# EAGLE library part ATTINY4313 (library smd_other)
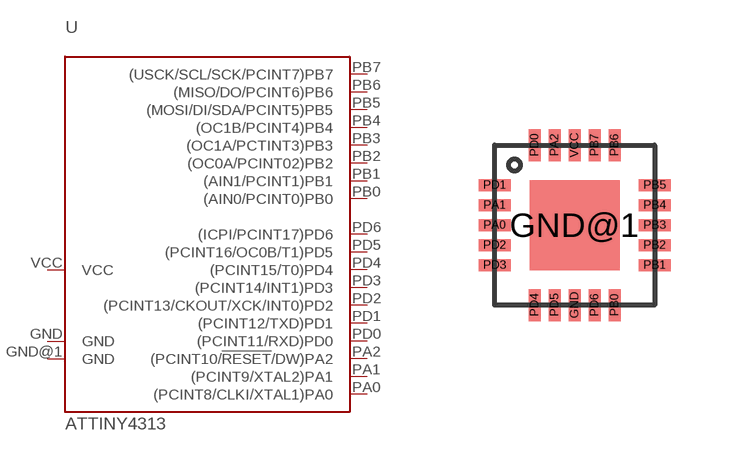
[diagram p3: symbol with the pads of ATTINY4313; footprint ATTINY4313]

Designator prefix -

## ATTINY4313  [ATTINY4313]
GND  GND  pwr
GND@1  GND  pwr
PA0  (PCINT8/CLKI/XTAL1)PA0
PA1  (PCINT9/XTAL2)PA1
PA2  (PCINT10/!RESET!/DW)PA2
PB0  (AIN0/PCINT0)PB0
PB1  (AIN1/PCINT1)PB1
PB2  (OC0A/PCINT02)PB2
PB3  (OC1A/PCTINT3)PB3
PB4  (OC1B/PCINT4)PB4
PB5  (MOSI/DI/SDA/PCINT5)PB5
PB6  (MISO/DO/PCINT6)PB6
PB7  (USCK/SCL/SCK/PCINT7)PB7
PD0  (PCINT11/RXD)PD0
PD1  (PCINT12/TXD)PD1
PD2  (PCINT13/CKOUT/XCK/INT0)PD2
PD3  (PCINT14/INT1)PD3
PD4  (PCINT15/T0)PD4
PD5  (PCINT16/OC0B/T1)PD5
PD6  (ICPI/PCINT17)PD6
VCC  VCC  pwr

## Footprint ATTINY4313 (pad centres in mm)
smd 0.3 x 0.8: GND 2,0; PA2 1.5,4; PB0 3,0; PB6 3,4; PB7 2.5,4; PD0 1,4; PD4 1,0; PD5 1.5,0; PD6 2.5,0; VCC 2,4
smd 2.25 x 2.25: GND@1 2,2
smd 0.8 x 0.3: PA0 0,2; PA1 0,2.5; PB1 4,1; PB2 4,1.5; PB3 4,2; PB4 4,2.5; PB5 4,3; PD1 0,3; PD2 0,1.5; PD3 0,1